# Altium schematic symbol library SCH - ADC - TI ADS1113.SchLib: 1 symbol
Pins are listed as number, name and electrical type; pins without a type are passive.

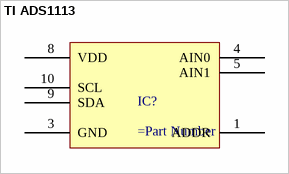
[diagram p0: symbol TI ADS1113]

## TI ADS1113
designator IC?
pins: 1 ADDR, 3 GND, 4 AIN0, 5 AIN1, 8 VDD, 9 SDA, 10 SCL